# Altium schematic symbol library AP2204R-5.0TRG1.SchLib: 1 symbol
Pins are listed as number, name and electrical type; pins without a type are passive.

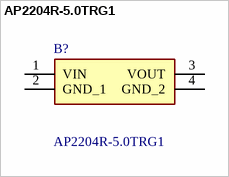
[diagram p0: symbol AP2204R-5.0TRG1]

## AP2204R-5.0TRG1
designator B?
LDO Voltage Regulators 150mA CMOS LDO 5.0V; Manufacturer_Name: Diodes Incorporated; Geometry.Height: 1.6mm; Mouser Part Number: 621-AP2204R-5.0TRG1; Mouser Price/Stock: https://www.mouser.co.uk/ProductDetail/Diodes-Incorporated/AP2204R-5.0TRG1?qs=x6A8l6qLYDB4wt14AgubAw%3D%3D; Manufacturer_Part_Number: AP2204R-5.0TRG1; Datasheet Link: https://datasheet.lcsc.com/szlcsc/Diodes-Incorporated-AP2204R-5-0TRG1_C156388.pdf
footprint AP2204R50TRG1
pins: 1 VIN, 2 GND_1, 3 VOUT, 4 GND_2